# EAGLE library part MSP430G2X31---RSA16 (library MSP430G2xxx)
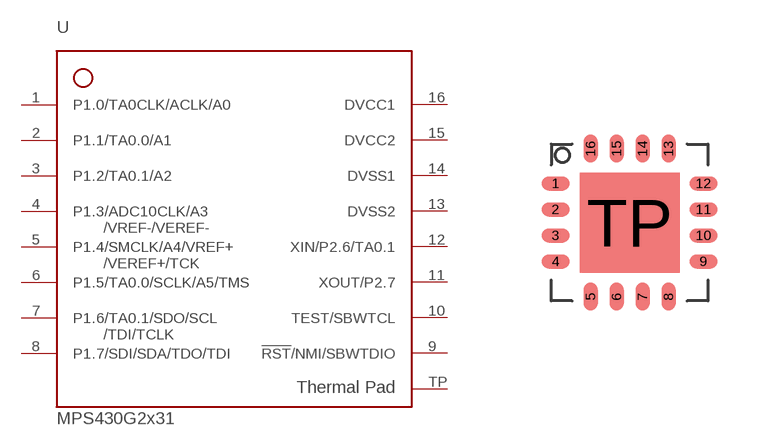
[diagram p3: symbol with the pads of RSA16; footprint RSA16]

Designator prefix -

## MSP430G2X31---RSA16  [RSA16]
1  P1.0/TA0CLK/ACLK/A0
2  P1.1/TA0.0/A1
3  P1.2/TA0.1/A2
4  P1.3/ADC10CLK/A3
5  P1.4/SMCLK/A4/VREF+
6  P1.5/TA0.0/SCLK/A5/TMS
7  P1.6/TA0.1/SDO/SCL
8  P1.7/SDI/SDA/TDO/TDI
9  !RST!/NMI/SBWTDIO
10  TEST/SBWTCL
11  XOUT/P2.7
12  XIN/P2.6/TA0.1
13  DVSS2  pwr
14  DVSS1  pwr
15  DVCC2  pwr
16  DVCC1  pwr
TP  17  pwr

## Footprint RSA16 (pad centres in mm)
smd 0.7 x 0.35: 1 -1.85,0.975; 2 -1.85,0.325; 3 -1.85,-0.325; 4 -1.85,-0.975; 9 1.85,-0.975; 10 1.85,-0.325; 11 1.85,0.325; 12 1.85,0.975
smd 0.35 x 0.7: 5 -0.975,-1.85; 6 -0.325,-1.85; 7 0.325,-1.85; 8 0.975,-1.85; 13 0.975,1.85; 14 0.325,1.85; 15 -0.325,1.85; 16 -0.975,1.85
smd 2.5 x 2.5: TP 0,0